# Altium footprint library W25Q64.PcbLib: 1 footprints
Each footprint in its own frame and in the unit in brackets; x right, y up, seen from the top. Pads: shape width x height; smd on the part's side, far side on the other; paste and mask are expansions set on the pad; w line width, h text height; cw(c..) or ccw(c..) is an arc to the next point about the centre after c.
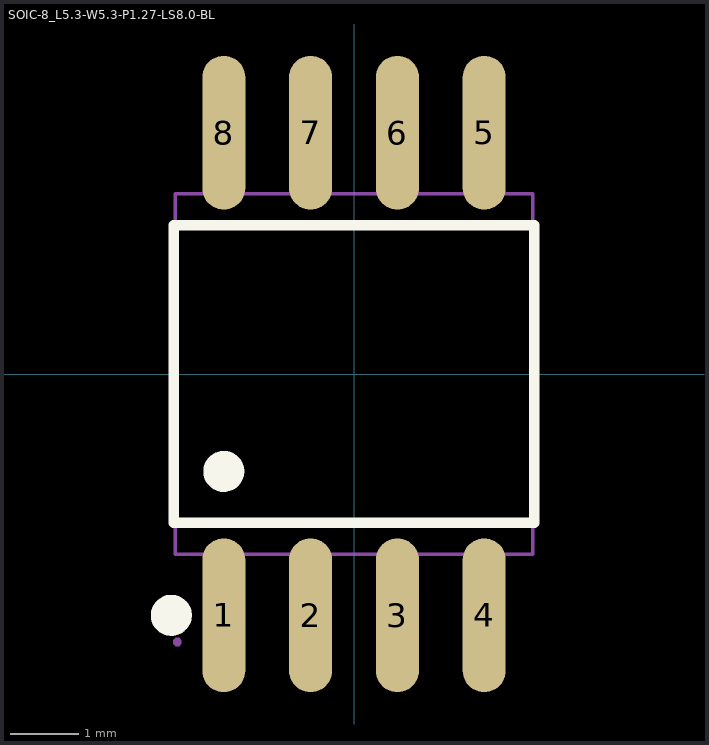
[diagram p0: the footprint, top view; thin cyan lines are the x and y axes]

## SOIC-8_L5.3-W5.3-P1.27-LS8.0-BL [mm]
pads (8):
  oval 0.63x2.25 smd: 1(-1.905,-3.53) 2(-0.635,-3.53) 3(0.635,-3.53) 4(1.905,-3.53) 5(1.905,3.53) 6(0.635,3.53) 7(-0.635,3.53) 8(-1.905,3.53)
Top Overlay:
  circle w0.3: c-1.905,-1.424 r0.15
  circle w0.3: c-2.672,-3.53 r0.15
  lines w0.152: -2.639,-2.176 -2.639,2.176 2.639,2.176 2.639,-2.176 -2.639,-2.176
Mechanical 6:
  circle w0.3: c-1.905,-4.35 r0.15
Mechanical 15:
  region: -2.525,-3.92 -2.525,-3.895 -2.56,-3.86 -2.61,-3.86 -2.645,-3.895 -2.645,-3.92 -2.645,-3.945 -2.61,-3.98 -2.56,-3.98 -2.525,-3.945 -2.525,-3.92
  region: -2.13,-3.95 -2.13,-3.3 -1.68,-3.3 -1.68,-3.95
  region: -2.13,-3.31 -2.13,-2.595 -1.68,-2.595 -1.68,-3.31
  region: -0.86,-3.95 -0.86,-3.3 -0.41,-3.3 -0.41,-3.95
  region: -0.86,-3.31 -0.86,-2.595 -0.41,-2.595 -0.41,-3.31
  region: 0.41,-3.95 0.41,-3.3 0.86,-3.3 0.86,-3.95
  region: 0.41,-3.31 0.41,-2.595 0.86,-2.595 0.86,-3.31
  region: 1.68,-3.95 1.68,-3.3 2.13,-3.3 2.13,-3.95
  region: 1.68,-3.31 1.68,-2.595 2.13,-2.595 2.13,-3.31
  region: -2.13,3.95 -2.13,3.3 -1.68,3.3 -1.68,3.95
  region: -2.13,3.31 -2.13,2.595 -1.68,2.595 -1.68,3.31
  region: -0.86,3.95 -0.86,3.3 -0.41,3.3 -0.41,3.95
  region: -0.86,3.31 -0.86,2.595 -0.41,2.595 -0.41,3.31
  region: 0.41,3.95 0.41,3.3 0.86,3.3 0.86,3.95
  region: 0.41,3.31 0.41,2.595 0.86,2.595 0.86,3.31
  region: 1.68,3.95 1.68,3.3 2.13,3.3 2.13,3.95
  region: 1.68,3.31 1.68,2.595 2.13,2.595 2.13,3.31
  lines w0.051: -2.615,-2.64 -2.615,2.64 2.615,2.64 2.615,-2.64 -2.615,-2.64
3D body "W25Q64.STEP": height 2.05, standoff -0.02, extent -2.593,-4.049 2.707,3.857